# Altium schematic symbol library Custom.SchLib: 53 symbols
Pins are listed as number, name and electrical type; pins without a type are passive.

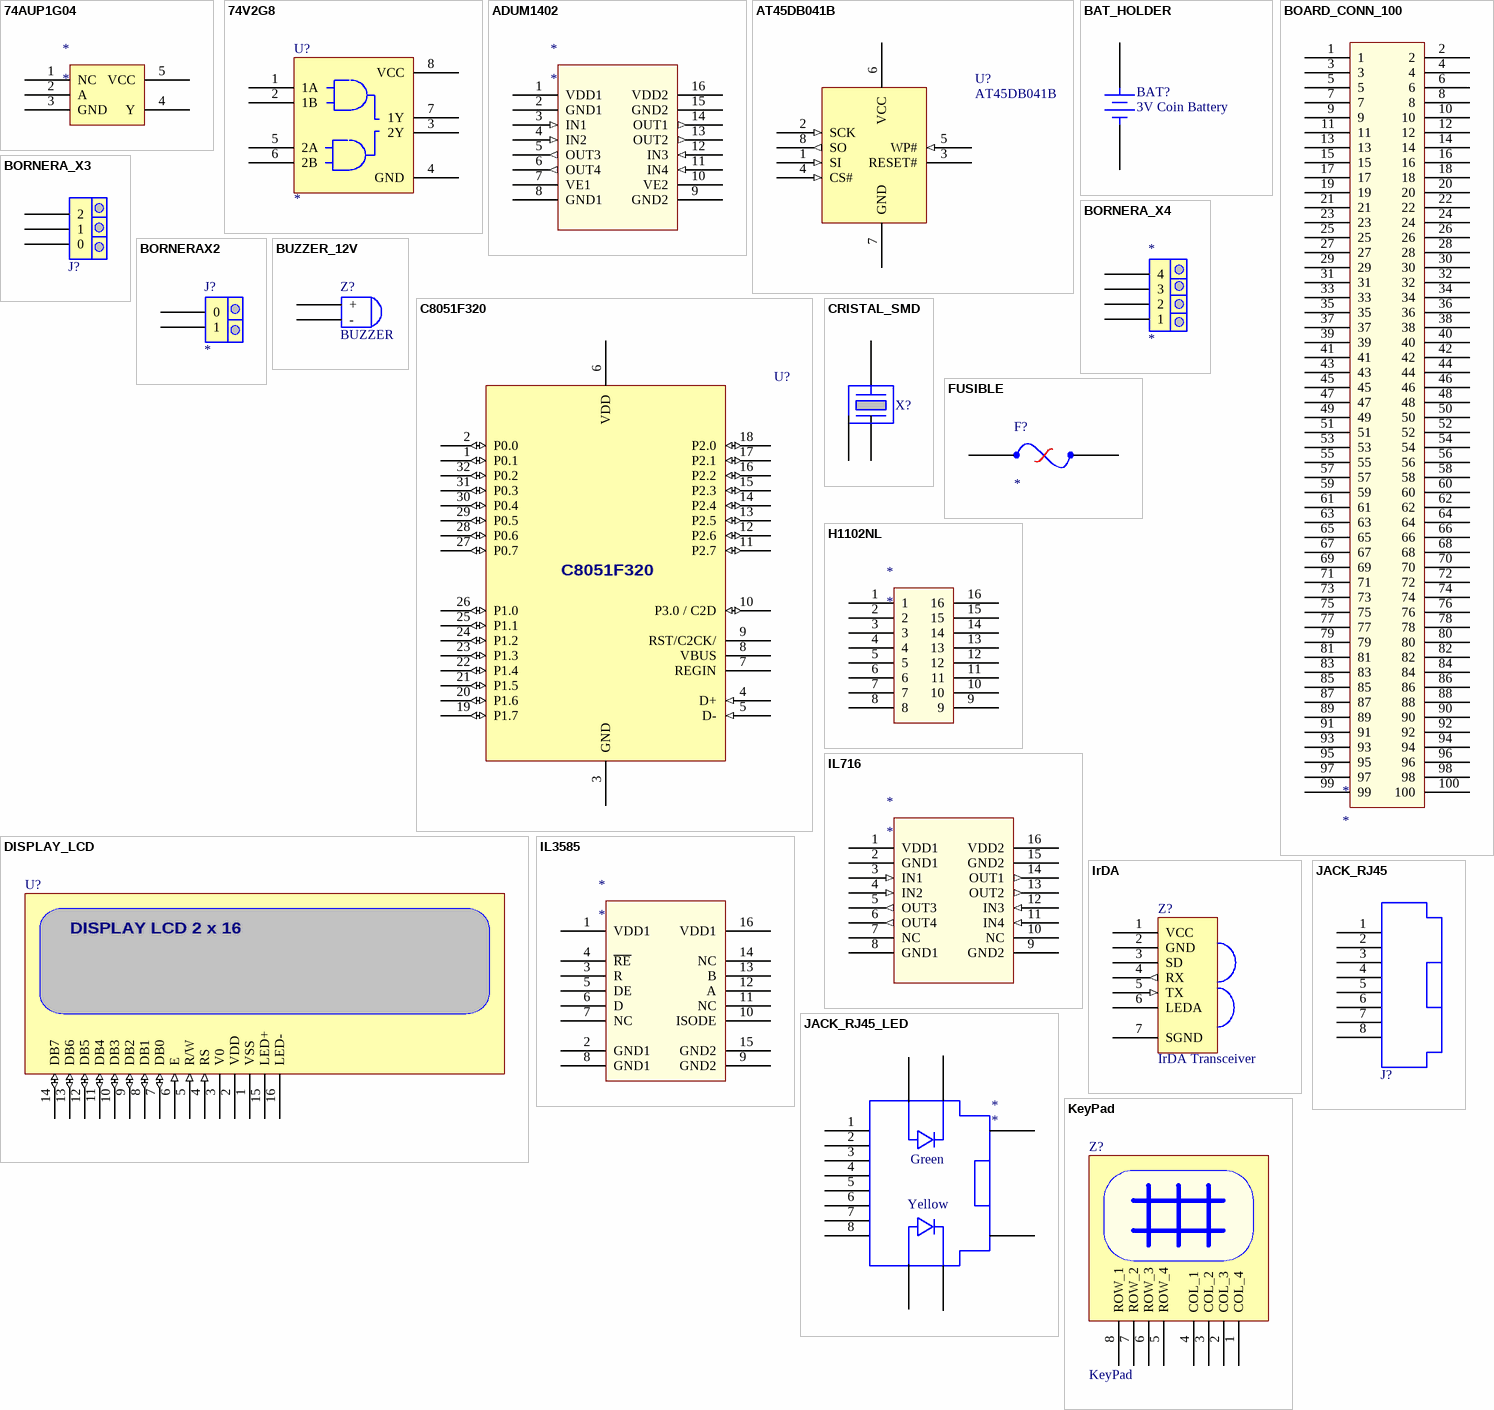
[diagram p0: symbols 74AUP1G04 to KeyPad]

## 74AUP1G04
designator *
Single IC Inverter
footprint SOT353-5AM
pins: 1 NC, 2 A, 3 GND, 4 Y, 5 VCC

## 74V2G8
designator U?
Dual 2-Input AND Gate
footprint SOT23-8L
pins: 1 1A, 2 1B, 3 2Y, 4 GND, 5 2A, 6 2B, 7 1Y, 8 VCC

## ADUM1402
designator *
4 Channel Digital Isolator 90Mbps
pins: 1 VDD1 (power), 2 GND1 (power), 3 IN1 (in), 4 IN2 (in), 5 OUT3 (out), 6 OUT4 (out), 7 VE1 (power), 8 GND1 (power), 9 GND2 (power), 10 VE2 (power), 11 IN4 (in), 12 IN3 (in), 13 OUT2 (out), 14 OUT1 (out), 15 GND2 (power), 16 VDD2 (power)

## AT45DB041B
designator U?
4 Megabit DataFlash Memory
footprint SO-G8/P1.53
pins: 1 SI (in), 2 SCK (in), 3 RESET#, 4 CS# (in), 5 WP# (in), 6 VCC (power), 7 GND (power), 8 SO (out)

## BAT_HOLDER
designator BAT?, comment 3V Coin Battery
Coin Battery Holder
footprint BAT_HOLDER (Coin Battery Holder)
pins: Neg, Pos

## BOARD_CONN_100
designator *
footprint BOARD_CONN_100 (Footprint not found)
pins: 1, 2, 3, 4, 5, 6, 7, 8, 9, 10, 11, 12, 13, 14, 15, 16, 17, 18, 19, 20, 21, 22, 23, 24, 25, 26, 27, 28, 29, 30, 31, 32, 33, 34, 35, 36, 37, 38, 39, 40, 41, 42, 43, 44, 45, 46, 47, 48, 49, 50, 51, 52, 53, 54, 55, 56, 57, 58, 59, 60, 61, 62, 63, 64, 65, 66, 67, 68, 69, 70, 71, 72, 73, 74, 75, 76, 77, 78, 79, 80, 81, 82, 83, 84, 85, 86, 87, 88, 89, 90, 91, 92, 93, 94, 95, 96, 97, 98, 99, 100

## BORNERA_X3
designator J?  (value not drawn)
footprint BORNERA_X3
pins: 0, 1, 2

## BORNERA_X4
designator *
footprint BORNERA_X4
pins: 1, 2, 3, 4

## BORNERAX2
designator J?
Bornera Enchufable
footprint BORNERAX2
pins: 0, 1

## BUZZER_12V
designator Z?, comment BUZZER
footprint BUZZER_12V
pins: 1 -, 2 +

## C8051F320
designator U?
SiLabs 8 bit Microcontroler
footprint QFP7x7-G32/N
footprint QFP7X7-G32/X.5N
pins: 1 P0.1 (io), 2 P0.0 (io), 3 GND (power), 4 D+ (in), 5 D- (in), 6 VDD (power), 7 REGIN, 8 VBUS, 9 RST/C2CK/, 10 P3.0 / C2D (io), 11 P2.7 (io), 12 P2.6 (io), 13 P2.5 (io), 14 P2.4 (io), 15 P2.3 (io), 16 P2.2 (io), 17 P2.1 (io), 18 P2.0 (io), 19 P1.7 (io), 20 P1.6 (io), 21 P1.5 (io), 22 P1.4 (io), 23 P1.3 (io), 24 P1.2 (io), 25 P1.1 (io), 26 P1.0 (io), 27 P0.7 (io), 28 P0.6 (io), 29 P0.5 (io), 30 P0.4 (io), 31 P0.3 (io), 32 P0.2 (io)

## CRISTAL_SMD
designator X?  (value not drawn)
footprint HC49/4H_SMX
footprint CRYSTAL_32KHZ
pins: 0, 1, 2

## DISPLAY_LCD
designator U?
Alphanumeric 2x20 LCD Display
footprint LCD_DISPLAY (Alphanumeric 2 x 20 LCD Display.)
pins: 1 VSS (power), 2 VDD (power), 3 V0, 4 RS (in), 5 R/W (in), 6 E (in), 7 DB0 (io), 8 DB1 (io), 9 DB2 (io), 10 DB3 (io), 11 DB4 (io), 12 DB5 (io), 13 DB6 (io), 14 DB7 (io), 15 LED+, 16 LED-
text: DISPLAY LCD 2 x 16

## FUSIBLE
designator F?
Resetteable Fuse
footprint RAD-0.2
pins: 1, 2

## H1102NL
designator *
footprint H1102_16
pins: 1 (power), 2 (power), 3 (power), 4 (power), 5 (power), 6 (power), 7 (power), 8 (power), 9 (power), 10 (power), 11 (power), 12 (power), 13 (power), 14 (power), 15 (power), 16 (power)

## IL716
designator *
4 Channel Digital Isolator 150MBps
footprint SOIC127P1030-16AL (SOIC, 16-Leads, Body 10.3x7.5mm, Pitch 1.27mm, IPC High Density)
footprint SOIC127P602-16BM (SOIC, 16-Leads, Body 9.9x3.9mm, Pitch 1.27mm, IPC Low Density)
pins: 1 VDD1 (power), 2 GND1 (power), 3 IN1 (in), 4 IN2 (in), 5 OUT3 (out), 6 OUT4 (out), 7 NC (power), 8 GND1 (power), 9 GND2 (power), 10 NC (power), 11 IN4 (in), 12 IN3 (in), 13 OUT2 (out), 14 OUT1 (out), 15 GND2 (power), 16 VDD2 (power)

## IL3585
designator *
Isolated RS-485 Interface
footprint SOIC127P1030-16AL (SOIC, 16-Leads, Body 10.3x7.5mm, Pitch 1.27mm, IPC High Density)
pins: 1 VDD1 (power), 2 GND1 (power), 3 R (power), 4 ~{RE} (power), 5 DE (power), 6 D (power), 7 NC (power), 8 GND1 (power), 9 GND2 (power), 10 ISODE (power), 11 NC (power), 12 A (power), 13 B (power), 14 NC (power), 15 GND2 (power), 16 VDD1 (power)

## IrDA
designator Z?, comment IrDA Transceiver
footprint IrDA
pins: 1 VCC (power), 2 GND (power), 3 SD, 4 RX (out), 5 TX (in), 6 LEDA, 7 SGND (power)

## JACK_RJ45
designator J?  (value not drawn)
Conector RJ45
footprint JACK1.27-4H8E
pins: 1, 2, 3, 4, 5, 6, 7, 8

## JACK_RJ45_LED
designator *
RJ45 Connector Jack with Leds
footprint JACK_RJ45_LEDS
footprint JACK_RJ45_LED2
pins: 1, 2, 3, 4, 5, 6, 7, 8, GA, GK, MH1 (power), MH2 (power), YA, YK
text: Green; Yellow

## KeyPad
designator Z?
4x4 Matrix KeyPad
footprint MHDR1X8
footprint HDR1X8
pins: 1 COL_4, 2 COL_3, 3 COL_2, 4 COL_1, 5 ROW_4, 6 ROW_3, 7 ROW_2, 8 ROW_1

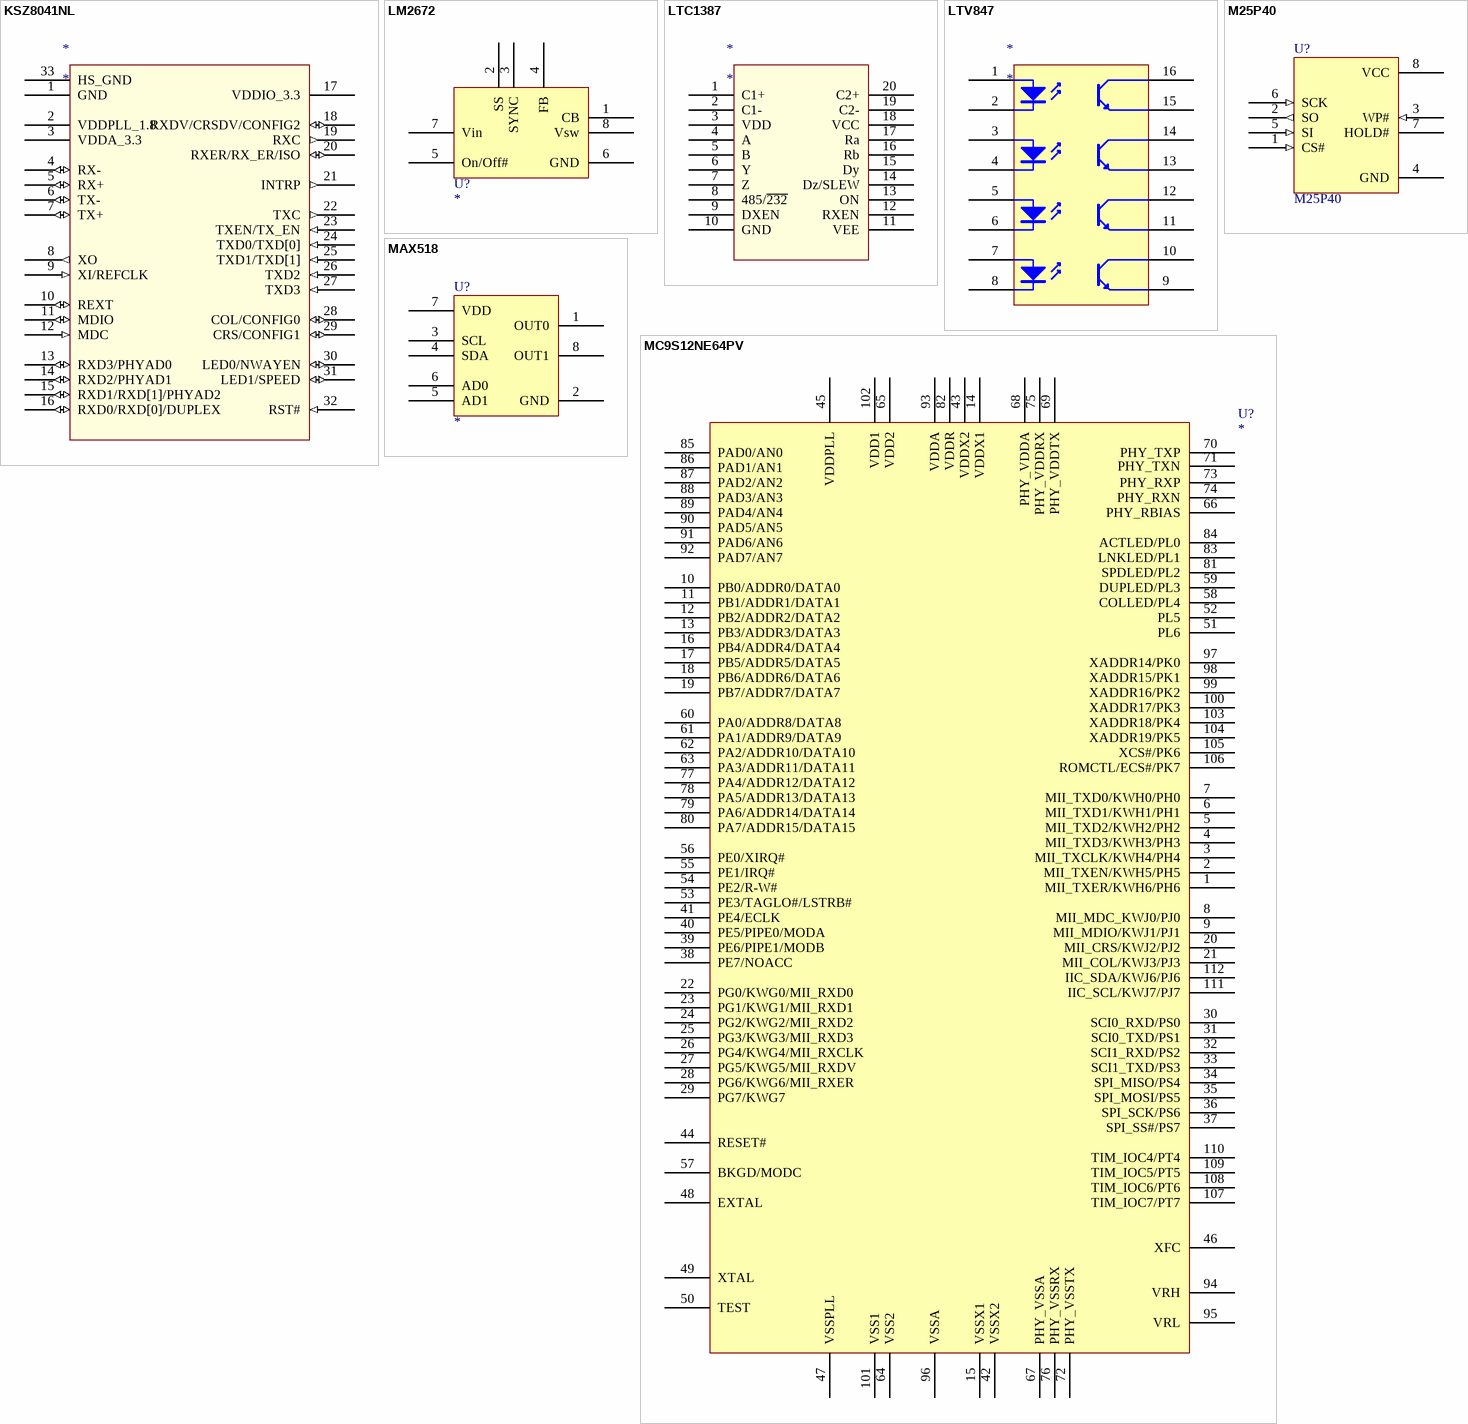
[diagram p1: symbols KSZ8041NL to MC9S12NE64PV]

## KSZ8041NL
designator *
10Base-T/100Base-TX  Physical Layer Transceiver
footprint QFN50P500X500-32VBN (32-Pin Plastic Quad Flat No-Lead 0.5 mm Pitch)
footprint QFN50P500X500-32W2M (QFN, 32-Leads, Body 5x5mm, Pitch 0.5mm, IPC Low Density)
pins: 1 GND (power), 2 VDDPLL_1.8 (power), 3 VDDA_3.3 (power), 4 RX- (io), 5 RX+ (io), 6 TX- (io), 7 TX+ (io), 8 XO (out), 9 XI/REFCLK (in), 10 REXT (io), 11 MDIO (io), 12 MDC (in), 13 RXD3/PHYAD0 (io), 14 RXD2/PHYAD1 (io), 15 RXD1/RXD[1]/PHYAD2 (io), 16 RXD0/RXD[0]/DUPLEX (io), 17 VDDIO_3.3 (power), 18 RXDV/CRSDV/CONFIG2 (io), 19 RXC (out), 20 RXER/RX_ER/ISO (io), 21 INTRP (out), 22 TXC (out), 23 TXEN/TX_EN (in), 24 TXD0/TXD[0] (in), 25 TXD1/TXD[1] (in), 26 TXD2 (in), 27 TXD3 (in), 28 COL/CONFIG0 (io), 29 CRS/CONFIG1 (io), 30 LED0/NWAYEN (io), 31 LED1/SPEED (io), 32 RST# (in), 33 HS_GND (power)

## LM2672
designator U?
Simple switcher voltage regulator 1A
footprint SO-G8/D5
pins: 1 CB, 2 SS, 3 SYNC, 4 FB, 5 On/Off#, 6 GND, 7 Vin, 8 Vsw

## LTC1387
designator *
Multiprocol Transeiver R-232/485
footprint SOP65P780-20AL (SOP, 20-Leads, Body 7.2x5.3mm, Pitch 0.65mm, IPC High Density)
footprint SOIC127P1030-20AL (SOIC, 20-Leads, Body 12.8x7.5mm, Pitch 1.27mm, IPC High Density)
pins: 1 C1+ (power), 2 C1- (power), 3 VDD (power), 4 A (power), 5 B (power), 6 Y (power), 7 Z (power), 8 485/~{232} (power), 9 DXEN (power), 10 GND (power), 11 VEE (power), 12 RXEN (power), 13 ON (power), 14 Dz/SLEW (power), 15 Dy (power), 16 Rb (power), 17 Ra (power), 18 VCC (power), 19 C2- (power), 20 C2+ (power)

## LTV847
designator *
pins: 1, 2, 3, 4, 5, 6, 7, 8, 9 (power), 10 (power), 11 (power), 12 (power), 13 (power), 14 (power), 15 (power), 16 (power)

## M25P40
designator U?
4 Mbit Serial Flash
footprint SO-G8/D5
pins: 1 CS# (in), 2 SO (out), 3 WP# (in), 4 GND (power), 5 SI (in), 6 SCK (in), 7 HOLD#, 8 VCC (power)

## MAX518
designator U?
2-Wire serial 8-bit DACs
footprint SO-G8/D5
pins: 1 OUT0, 2 GND, 3 SCL, 4 SDA, 5 AD1, 6 AD0, 7 VDD, 8 OUT1

## MC9S12NE64PV
designator U?
Integrated Ethernet Controller
footprint QFP20x20-G112/Y1.6N
pins: 1 MII_TXER/KWH6/PH6, 2 MII_TXEN/KWH5/PH5, 3 MII_TXCLK/KWH4/PH4, 4 MII_TXD3/KWH3/PH3, 5 MII_TXD2/KWH2/PH2, 6 MII_TXD1/KWH1/PH1, 7 MII_TXD0/KWH0/PH0, 8 MII_MDC_KWJ0/PJ0, 9 MII_MDIO/KWJ1/PJ1, 10 PB0/ADDR0/DATA0, 11 PB1/ADDR1/DATA1, 12 PB2/ADDR2/DATA2, 13 PB3/ADDR3/DATA3, 14 VDDX1 (power), 15 VSSX1 (power), 16 PB4/ADDR4/DATA4, 17 PB5/ADDR5/DATA5, 18 PB6/ADDR6/DATA6, 19 PB7/ADDR7/DATA7, 20 MII_CRS/KWJ2/PJ2, 21 MII_COL/KWJ3/PJ3, 22 PG0/KWG0/MII_RXD0, 23 PG1/KWG1/MII_RXD1, 24 PG2/KWG2/MII_RXD2, 25 PG3/KWG3/MII_RXD3, 26 PG4/KWG4/MII_RXCLK, 27 PG5/KWG5/MII_RXDV, 28 PG6/KWG6/MII_RXER, 29 PG7/KWG7, 30 SCI0_RXD/PS0, 31 SCI0_TXD/PS1, 32 SCI1_RXD/PS2, 33 SCI1_TXD/PS3, 34 SPI_MISO/PS4, 35 SPI_MOSI/PS5, 36 SPI_SCK/PS6, 37 SPI_SS#/PS7, 38 PE7/NOACC, 39 PE6/PIPE1/MODB, 40 PE5/PIPE0/MODA, 41 PE4/ECLK, 42 VSSX2 (power), 43 VDDX2 (power), 44 RESET#, 45 VDDPLL (power), 46 XFC, 47 VSSPLL (power), 48 EXTAL, 49 XTAL, 50 TEST, 51 PL6, 52 PL5, 53 PE3/TAGLO#/LSTRB#, 54 PE2/R-W#, 55 PE1/IRQ#, 56 PE0/XIRQ#, 57 BKGD/MODC, 58 COLLED/PL4, 59 DUPLED/PL3, 60 PA0/ADDR8/DATA8, 61 PA1/ADDR9/DATA9, 62 PA2/ADDR10/DATA10, 63 PA3/ADDR11/DATA11, 64 VSS2 (power), 65 VDD2 (power), 66 PHY_RBIAS, 67 PHY_VSSA (power), 68 PHY_VDDA (power), 69 PHY_VDDTX (power), 70 PHY_TXP, 71 PHY_TXN, 72 PHY_VSSTX (power), 73 PHY_RXP, 74 PHY_RXN, 75 PHY_VDDRX (power), 76 PHY_VSSRX (power), 77 PA4/ADDR12/DATA12, 78 PA5/ADDR13/DATA13, 79 PA6/ADDR14/DATA14, 80 PA7/ADDR15/DATA15, 81 SPDLED/PL2, 82 VDDR (power), 83 LNKLED/PL1, 84 ACTLED/PL0, 85 PAD0/AN0, 86 PAD1/AN1, 87 PAD2/AN2, 88 PAD3/AN3, 89 PAD4/AN4, 90 PAD5/AN5, 91 PAD6/AN6, 92 PAD7/AN7, 93 VDDA (power), 94 VRH, 95 VRL, 96 VSSA (power), 97 XADDR14/PK0, 98 XADDR15/PK1, 99 XADDR16/PK2, 100 XADDR17/PK3, 101 VSS1 (power), 102 VDD1 (power), 103 XADDR18/PK4, 104 XADDR19/PK5, 105 XCS#/PK6, 106 ROMCTL/ECS#/PK7, 107 TIM_IOC7/PT7, 108 TIM_IOC6/PT6, 109 TIM_IOC5/PT5, 110 TIM_IOC4/PT4, 111 IIC_SCL/KWJ7/PJ7, 112 IIC_SDA/KWJ6/PJ6

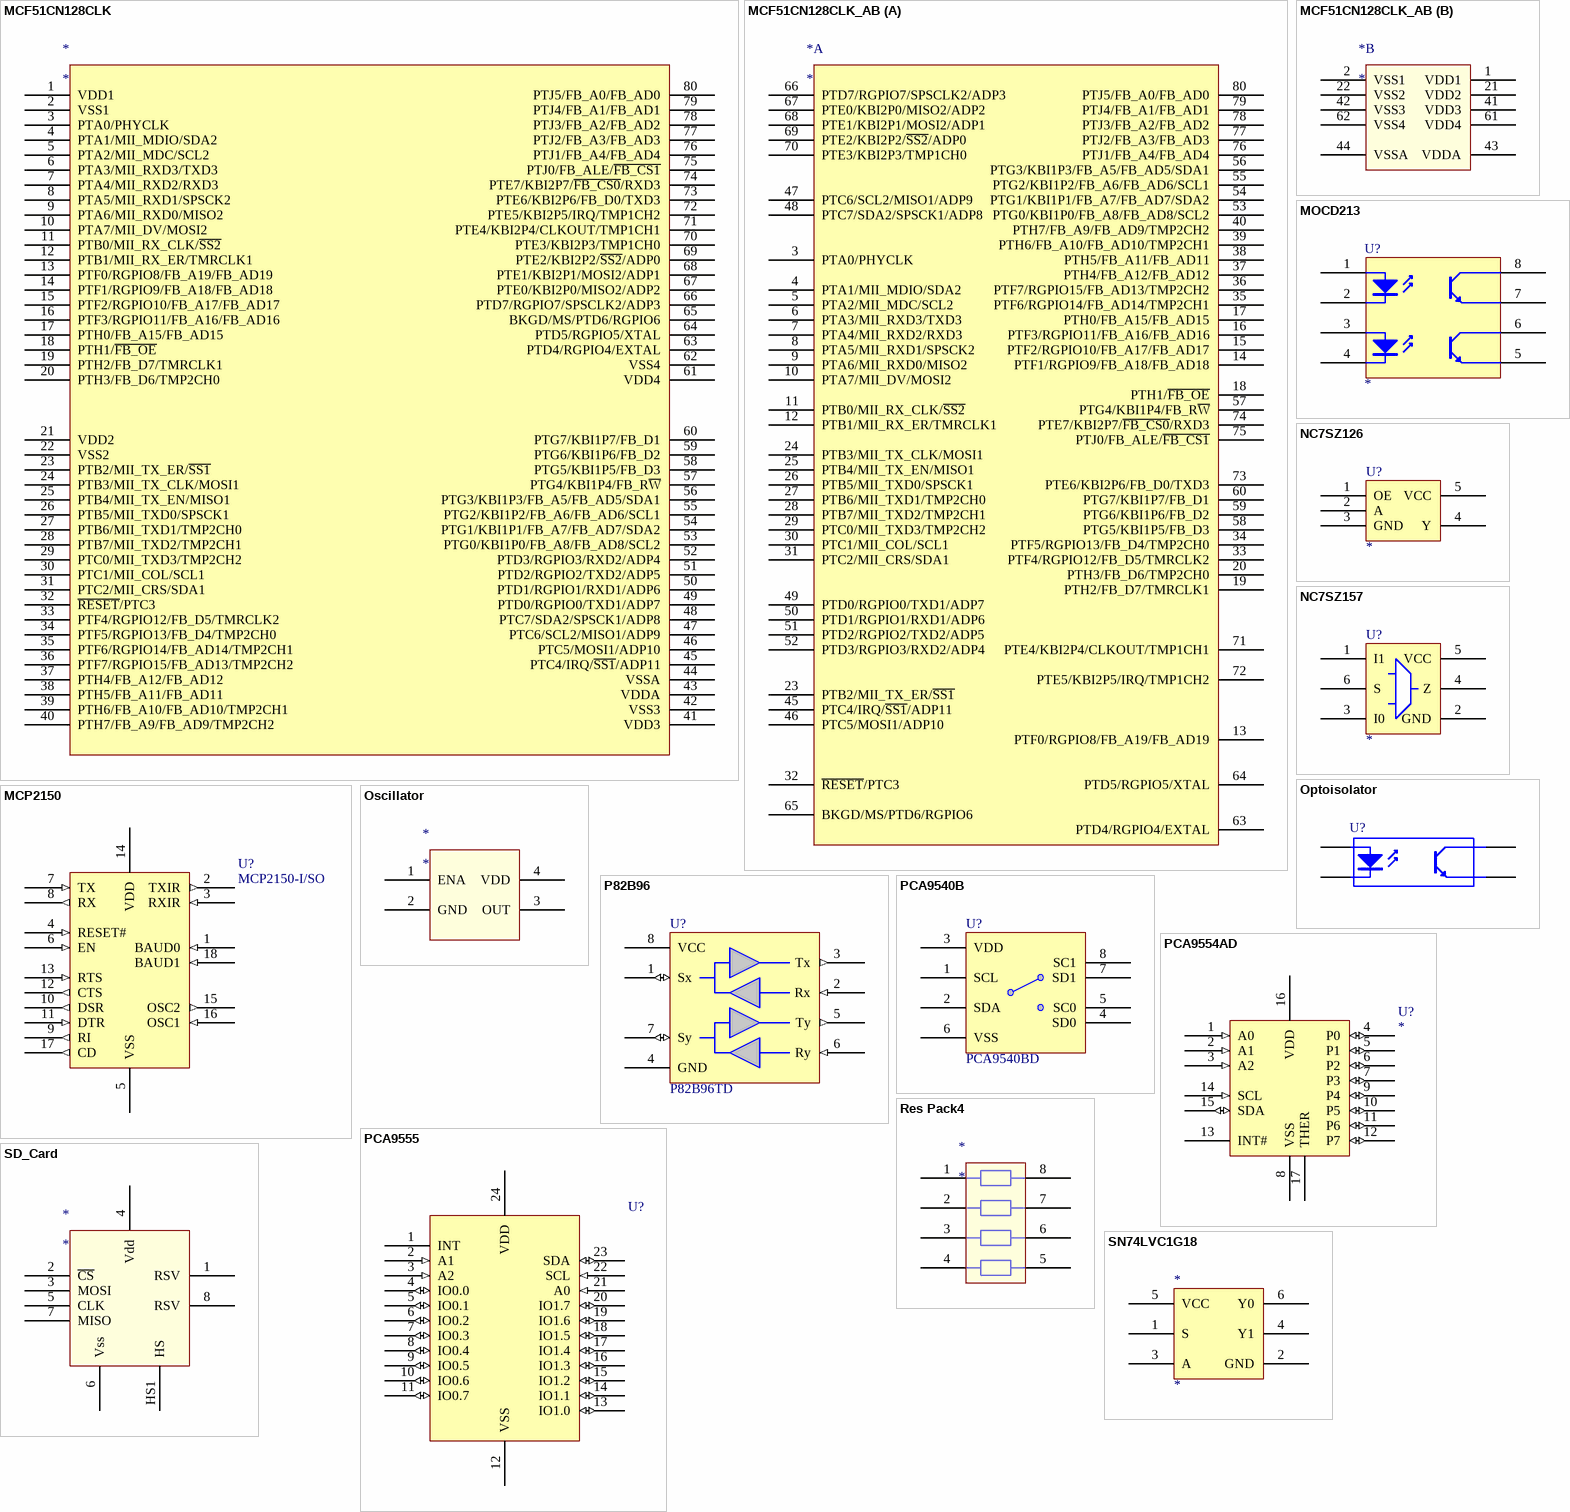
[diagram p2: symbols MCF51CN128CLK to SN74LVC1G18]

## MCF51CN128CLK
designator *
footprint 841B-01_L (QFP, 80-Leads, Body 14 x 14mm, Pitch 0.65mm, IPC High Density)
pins: 1 VDD1, 2 VSS1, 3 PTA0/PHYCLK, 4 PTA1/MII_MDIO/SDA2, 5 PTA2/MII_MDC/SCL2, 6 PTA3/MII_RXD3/TXD3, 7 PTA4/MII_RXD2/RXD3, 8 PTA5/MII_RXD1/SPSCK2, 9 PTA6/MII_RXD0/MISO2, 10 PTA7/MII_DV/MOSI2, 11 PTB0/MII_RX_CLK/~{SS2}, 12 PTB1/MII_RX_ER/TMRCLK1, 13 PTF0/RGPIO8/FB_A19/FB_AD19, 14 PTF1/RGPIO9/FB_A18/FB_AD18, 15 PTF2/RGPIO10/FB_A17/FB_AD17, 16 PTF3/RGPIO11/FB_A16/FB_AD16, 17 PTH0/FB_A15/FB_AD15, 18 PTH1/~{FB_OE}, 19 PTH2/FB_D7/TMRCLK1, 20 PTH3/FB_D6/TMP2CH0, 21 VDD2, 22 VSS2, 23 PTB2/MII_TX_ER/~{SS1}, 24 PTB3/MII_TX_CLK/MOSI1, 25 PTB4/MII_TX_EN/MISO1, 26 PTB5/MII_TXD0/SPSCK1, 27 PTB6/MII_TXD1/TMP2CH0, 28 PTB7/MII_TXD2/TMP2CH1, 29 PTC0/MII_TXD3/TMP2CH2, 30 PTC1/MII_COL/SCL1, 31 PTC2/MII_CRS/SDA1, 32 ~{RESET}/PTC3, 33 PTF4/RGPIO12/FB_D5/TMRCLK2, 34 PTF5/RGPIO13/FB_D4/TMP2CH0, 35 PTF6/RGPIO14/FB_AD14/TMP2CH1, 36 PTF7/RGPIO15/FB_AD13/TMP2CH2, 37 PTH4/FB_A12/FB_AD12, 38 PTH5/FB_A11/FB_AD11, 39 PTH6/FB_A10/FB_AD10/TMP2CH1, 40 PTH7/FB_A9/FB_AD9/TMP2CH2, 41 VDD3, 42 VSS3, 43 VDDA, 44 VSSA, 45 PTC4/IRQ/~{SS1}/ADP11, 46 PTC5/MOSI1/ADP10, 47 PTC6/SCL2/MISO1/ADP9, 48 PTC7/SDA2/SPSCK1/ADP8, 49 PTD0/RGPIO0/TXD1/ADP7, 50 PTD1/RGPIO1/RXD1/ADP6, 51 PTD2/RGPIO2/TXD2/ADP5, 52 PTD3/RGPIO3/RXD2/ADP4, 53 PTG0/KBI1P0/FB_A8/FB_AD8/SCL2, 54 PTG1/KBI1P1/FB_A7/FB_AD7/SDA2, 55 PTG2/KBI1P2/FB_A6/FB_AD6/SCL1, 56 PTG3/KBI1P3/FB_A5/FB_AD5/SDA1, 57 PTG4/KBI1P4/FB_R~{W}, 58 PTG5/KBI1P5/FB_D3, 59 PTG6/KBI1P6/FB_D2, 60 PTG7/KBI1P7/FB_D1, 61 VDD4, 62 VSS4, 63 PTD4/RGPIO4/EXTAL, 64 PTD5/RGPIO5/XTAL, 65 BKGD/MS/PTD6/RGPIO6, 66 PTD7/RGPIO7/SPSCLK2/ADP3, 67 PTE0/KBI2P0/MISO2/ADP2, 68 PTE1/KBI2P1/MOSI2/ADP1, 69 PTE2/KBI2P2/~{SS2}/ADP0, 70 PTE3/KBI2P3/TMP1CH0, 71 PTE4/KBI2P4/CLKOUT/TMP1CH1, 72 PTE5/KBI2P5/IRQ/TMP1CH2, 73 PTE6/KBI2P6/FB_D0/TXD3, 74 PTE7/KBI2P7/~{FB_CS0}/RXD3, 75 PTJ0/FB_ALE/~{FB_CS1}, 76 PTJ1/FB_A4/FB_AD4, 77 PTJ2/FB_A3/FB_AD3, 78 PTJ3/FB_A2/FB_AD2, 79 PTJ4/FB_A1/FB_AD1, 80 PTJ5/FB_A0/FB_AD0

## MCF51CN128CLK_AB
designator *
footprint 841B-01_L (QFP, 80-Leads, Body 14 x 14mm, Pitch 0.65mm, IPC High Density)
part A pins: 3 PTA0/PHYCLK, 4 PTA1/MII_MDIO/SDA2, 5 PTA2/MII_MDC/SCL2, 6 PTA3/MII_RXD3/TXD3, 7 PTA4/MII_RXD2/RXD3, 8 PTA5/MII_RXD1/SPSCK2, 9 PTA6/MII_RXD0/MISO2, 10 PTA7/MII_DV/MOSI2, 11 PTB0/MII_RX_CLK/~{SS2}, 12 PTB1/MII_RX_ER/TMRCLK1, 13 PTF0/RGPIO8/FB_A19/FB_AD19, 14 PTF1/RGPIO9/FB_A18/FB_AD18, 15 PTF2/RGPIO10/FB_A17/FB_AD17, 16 PTF3/RGPIO11/FB_A16/FB_AD16, 17 PTH0/FB_A15/FB_AD15, 18 PTH1/~{FB_OE}, 19 PTH2/FB_D7/TMRCLK1, 20 PTH3/FB_D6/TMP2CH0, 23 PTB2/MII_TX_ER/~{SS1}, 24 PTB3/MII_TX_CLK/MOSI1, 25 PTB4/MII_TX_EN/MISO1, 26 PTB5/MII_TXD0/SPSCK1, 27 PTB6/MII_TXD1/TMP2CH0, 28 PTB7/MII_TXD2/TMP2CH1, 29 PTC0/MII_TXD3/TMP2CH2, 30 PTC1/MII_COL/SCL1, 31 PTC2/MII_CRS/SDA1, 32 ~{RESET}/PTC3, 33 PTF4/RGPIO12/FB_D5/TMRCLK2, 34 PTF5/RGPIO13/FB_D4/TMP2CH0, 35 PTF6/RGPIO14/FB_AD14/TMP2CH1, 36 PTF7/RGPIO15/FB_AD13/TMP2CH2, 37 PTH4/FB_A12/FB_AD12, 38 PTH5/FB_A11/FB_AD11, 39 PTH6/FB_A10/FB_AD10/TMP2CH1, 40 PTH7/FB_A9/FB_AD9/TMP2CH2, 45 PTC4/IRQ/~{SS1}/ADP11, 46 PTC5/MOSI1/ADP10, 47 PTC6/SCL2/MISO1/ADP9, 48 PTC7/SDA2/SPSCK1/ADP8, 49 PTD0/RGPIO0/TXD1/ADP7, 50 PTD1/RGPIO1/RXD1/ADP6, 51 PTD2/RGPIO2/TXD2/ADP5, 52 PTD3/RGPIO3/RXD2/ADP4, 53 PTG0/KBI1P0/FB_A8/FB_AD8/SCL2, 54 PTG1/KBI1P1/FB_A7/FB_AD7/SDA2, 55 PTG2/KBI1P2/FB_A6/FB_AD6/SCL1, 56 PTG3/KBI1P3/FB_A5/FB_AD5/SDA1, 57 PTG4/KBI1P4/FB_R~{W}, 58 PTG5/KBI1P5/FB_D3, 59 PTG6/KBI1P6/FB_D2, 60 PTG7/KBI1P7/FB_D1, 63 PTD4/RGPIO4/EXTAL, 64 PTD5/RGPIO5/XTAL, 65 BKGD/MS/PTD6/RGPIO6, 66 PTD7/RGPIO7/SPSCLK2/ADP3, 67 PTE0/KBI2P0/MISO2/ADP2, 68 PTE1/KBI2P1/MOSI2/ADP1, 69 PTE2/KBI2P2/~{SS2}/ADP0, 70 PTE3/KBI2P3/TMP1CH0, 71 PTE4/KBI2P4/CLKOUT/TMP1CH1, 72 PTE5/KBI2P5/IRQ/TMP1CH2, 73 PTE6/KBI2P6/FB_D0/TXD3, 74 PTE7/KBI2P7/~{FB_CS0}/RXD3, 75 PTJ0/FB_ALE/~{FB_CS1}, 76 PTJ1/FB_A4/FB_AD4, 77 PTJ2/FB_A3/FB_AD3, 78 PTJ3/FB_A2/FB_AD2, 79 PTJ4/FB_A1/FB_AD1, 80 PTJ5/FB_A0/FB_AD0
part B pins: 1 VDD1, 2 VSS1, 21 VDD2, 22 VSS2, 41 VDD3, 42 VSS3, 43 VDDA, 44 VSSA, 61 VDD4, 62 VSS4

## MCP2150
designator U?, comment MCP2150-I/SO
IrDA Standard Protocol Stack Controller
footprint SO-G18/E7.7
pins: 1 BAUD0 (in), 2 TXIR (out), 3 RXIR (in), 4 RESET# (in), 5 VSS (power), 6 EN (in), 7 TX (in), 8 RX (out), 9 RI (out), 10 DSR (out), 11 DTR (in), 12 CTS (out), 13 RTS (in), 14 VDD (power), 15 OSC2 (out), 16 OSC1 (in), 17 CD (out), 18 BAUD1 (in)

## MOCD213
designator U?
Dual Channel Phototransistor
footprint SO-G8/D5
pins: 1, 2, 3, 4, 5, 6, 7, 8

## NC7SZ126
designator U?
UHS Buffer with 3-state output
footprint SO-G5/P.95 (Footprint not found)
pins: 1 OE, 2 A, 3 GND, 4 Y, 5 VCC

## NC7SZ157
designator U?
Tiny Logic 2-Input Non-Inverter Mux
footprint SOT23-8L
footprint SO-G6/Z2.8
pins: 1 I1, 2 GND (power), 3 I0, 4 Z, 5 VCC (power), 6 S

## Optoisolator
designator U?
Optoisolator 4_SOP; Published: 24-Mar-1999; Revision: July-2002: Re-released for DXP Platform.; Publisher: Altium Limited
footprint SOP4
pins: 1 A, 2 K, 3 E, 4 C

## Oscillator
designator *
pins: 1 ENA (power), 2 GND (power), 3 OUT (power), 4 VDD (power)

## P82B96
designator U?, comment P82B96TD
Dual Bi-Directional I2C Bus Buffer SO8
footprint SO-G8
pins: 1 Sx (io), 2 Rx (in), 3 Tx (out), 4 GND (power), 5 Ty (out), 6 Ry (in), 7 Sy (io), 8 VCC (power)

## PCA9540B
designator U?, comment PCA9540BD
2-channel I2C Multiplexer SO8
footprint SO-G8
pins: 1 SCL, 2 SDA, 3 VDD (power), 4 SD0, 5 SC0, 6 VSS (power), 7 SD1, 8 SC1

## PCA9554AD
designator U?
8 bit I/O Expander for I2C bus
footprint SO-G16/G7.7
pins: 1 A0 (in), 2 A1 (in), 3 A2 (in), 4 P0 (io), 5 P1 (io), 6 P2 (io), 7 P3 (io), 8 VSS (power), 9 P4 (io), 10 P5 (io), 11 P6 (io), 12 P7 (io), 13 INT# (oc), 14 SCL (in), 15 SDA (io), 16 VDD (power), 17 THER (power)

## PCA9555
designator U?
16-bit I2C I/O Port
footprint SO-G24
pins: 1 INT (oc), 2 A1 (in), 3 A2 (in), 4 IO0.0 (io), 5 IO0.1 (io), 6 IO0.2 (io), 7 IO0.3 (io), 8 IO0.4 (io), 9 IO0.5 (io), 10 IO0.6 (io), 11 IO0.7 (io), 12 VSS (power), 13 IO1.0 (io), 14 IO1.1 (io), 15 IO1.2 (io), 16 IO1.3 (io), 17 IO1.4 (io), 18 IO1.5 (io), 19 IO1.6 (io), 20 IO1.7 (io), 21 A0 (in), 22 SCL (in), 23 SDA (io), 24 VDD (power)

## Res Pack4
designator *
pins: 1 (power), 2 (power), 3 (power), 4 (power), 5 (power), 6 (power), 7 (power), 8 (power)

## SD_Card
designator *
pins: 1 RSV (power), 2 ~{CS} (power), 3 MOSI (power), 4 Vdd (power), 5 CLK (power), 6 Vss (power), 7 MISO (power), 8 RSV (power), HS1 HS (power)

## SN74LVC1G18
designator *
1 OF 2 DEMULTIPLEXER
footprint SOP6
pins: 1 S, 2 GND, 3 A, 4 Y1, 5 VCC, 6 Y0

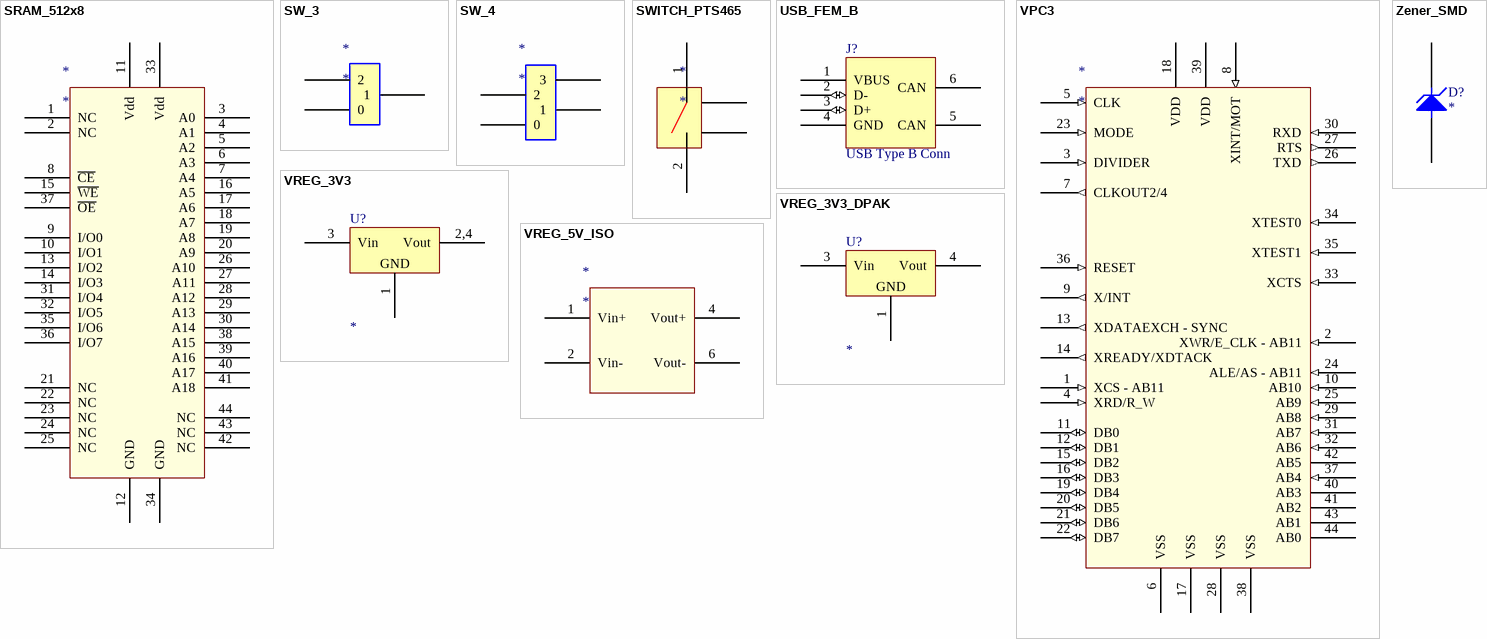
[diagram p3: symbols SRAM_512x8 to Zener_SMD]

## SRAM_512x8
designator *
footprint TSOP44
pins: 1 NC (power), 2 NC (power), 3 A0 (power), 4 A1 (power), 5 A2 (power), 6 A3 (power), 7 A4 (power), 8 ~{CE} (power), 9 I/O0 (power), 10 I/O1 (power), 11 Vdd (power), 12 GND (power), 13 I/O2 (power), 14 I/O3 (power), 15 ~{WE} (power), 16 A5 (power), 17 A6 (power), 18 A7 (power), 19 A8 (power), 20 A9 (power), 21 NC (power), 22 NC (power), 23 NC (power), 24 NC (power), 25 NC (power), 26 A10 (power), 27 A11 (power), 28 A12 (power), 29 A13 (power), 30 A14 (power), 31 I/O4 (power), 32 I/O5 (power), 33 Vdd (power), 34 GND (power), 35 I/O6 (power), 36 I/O7 (power), 37 ~{OE} (power), 38 A15 (power), 39 A16 (power), 40 A17 (power), 41 A18 (power), 42 NC (power), 43 NC (power), 44 NC (power)

## SW_3
designator *
footprint HDR1X3
pins: 0, 1, 2

## SW_4
designator *
footprint HDR1X4
pins: 0, 1, 2, 3

## SWITCH_PTS465
designator *
pins: 1 (power), 2 (power), 3 SHD (power), 4 SHD (power)

## USB_FEM_B
designator J?, comment USB Type B Conn
USB Female Type B connector
footprint USB_FEM_B (USB Type B Receptacle Connector)
pins: 1 VBUS, 2 D- (io), 3 D+ (io), 4 GND, 5 CAN, 6 CAN

## VPC3
designator *
uP interface for intelligent PROFIBUS DP-Slave
footprint QFP80P1320X1320-44L (QFP, 44-Leads, Body 10x10mm, Pitch 0.8mm, IPC High Density)
pins: 1 XCS - AB11 (in), 2 XWR/E_CLK - AB11 (in), 3 DIVIDER (in), 4 XRD/R_W (in), 5 CLK (in), 6 VSS (power), 7 CLKOUT2/4 (out), 8 XINT/MOT (in), 9 X/INT (out), 10 AB10 (in), 11 DB0 (io), 12 DB1 (io), 13 XDATAEXCH - SYNC (out), 14 XREADY/XDTACK (out), 15 DB2 (io), 16 DB3 (io), 17 VSS (power), 18 VDD (power), 19 DB4 (io), 20 DB5 (io), 21 DB6 (io), 22 DB7 (io), 23 MODE (in), 24 ALE/AS - AB11 (in), 25 AB9 (in), 26 TXD (out), 27 RTS (out), 28 VSS (power), 29 AB8 (in), 30 RXD (in), 31 AB7 (in), 32 AB6 (in), 33 XCTS (in), 34 XTEST0 (in), 35 XTEST1 (in), 36 RESET (in), 37 AB4 (in), 38 VSS (power), 39 VDD (power), 40 AB3 (power), 41 AB2 (power), 42 AB5 (power), 43 AB1 (power), 44 AB0 (power)

## VREG_3V3
designator U?
SMD SOT223 Voltage Regulator
footprint DSO-G3
pins: 1 GND, 2 Vout, 3 Vin (power), 4 Vout
text: 2,4

## VREG_3V3_DPAK
designator U?
SMD DPAK Voltage Regulator
footprint DSO-G3
footprint SIP-G3/D11.3
pins: 1 GND, 3 Vin (power), 4 Vout

## VREG_5V_ISO
designator *
footprint Model Name (Footprint not found)
footprint SIP_6
pins: 1 Vin+ (power), 2 Vin- (power), 4 Vout+ (power), 6 Vout- (power)

## Zener_SMD
designator D?
footprint SOD123
pins: 1 A, 2 K